# EAGLE library part RJ45_FEM_180 (library conectores)
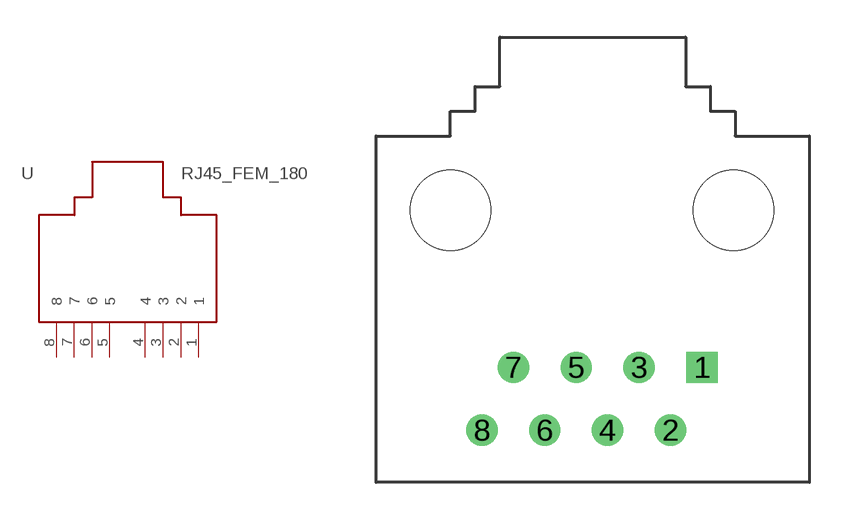
[diagram p2: symbol with the pads of RJ45_FEM_180; footprint RJ45_FEM_180]

Designator prefix -

## RJ45_FEM_180  [RJ45_FEM_180]
1  1
2  2
3  3
4  4
5  5
6  6
7  7
8  8

## Footprint RJ45_FEM_180 (pad centres in mm)
drill 0.76 square: 1 4.445,-3.81
drill 0.76: 2 3.175,-6.35; 3 1.905,-3.81; 4 0.635,-6.35; 5 -0.635,-3.81; 6 -1.905,-6.35; 7 -3.175,-3.81; 8 -4.445,-6.35
hole 3.25 at -5.715,2.54
hole 3.25 at 5.715,2.54